# Altium integrated library Linear Technology Power Management Switching Regulator LTC1174-LTC3901.IntLib: 2647 symbols (part 252 of 364)
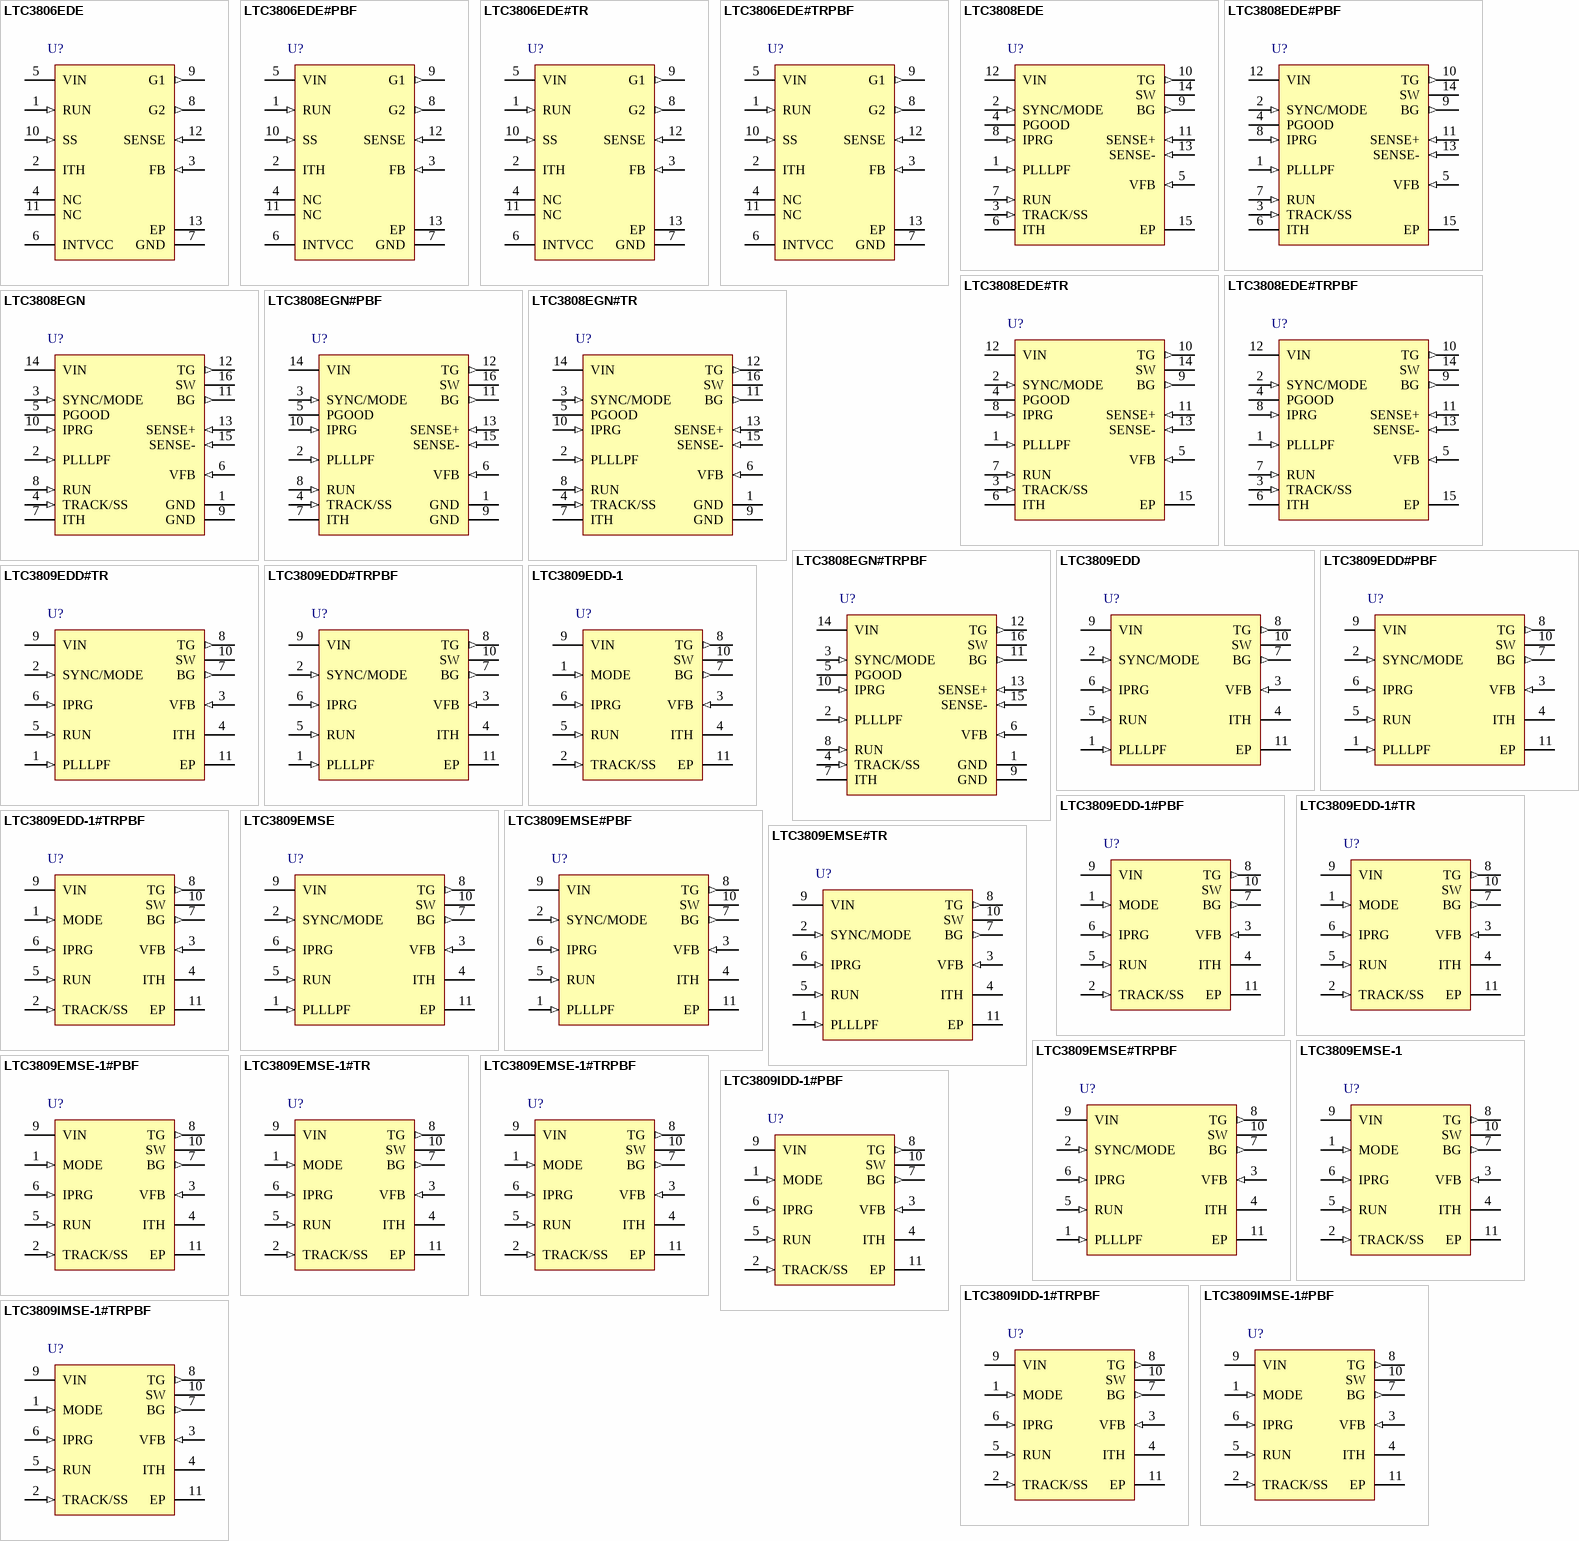
[diagram p245: symbols LTC3806EDE to LTC3809IMSE-1#TRPBF]

## LTC3809EMSE-1
designator U?
No Rsense, Low Input Voltage, Synchronous DC/DC Controller with Output Tracking, 10-pin SOP (MSE-10-EDP), -40 to 85 degC; Manufacturer: Linear Technology; PartNumber: LTC3809EMSE-1; Number of Outputs: 1; DatasheetVersion: Rev. C; PackageVersion: Rev. C, 08/2009; PackageReference: MSE-10; PackageDescription: 10-Pin Plastic MSOP, Exposed Die Pad, Body 3 x 3 mm, Pitch 0.5 mm; Supplier 1: Digi-Key; Supplier Part Number 1: LTC3809EMSE-1-ND; RoHS: FALSE; Mounting Technology: Surface Mount; ComponentLink1Description: Manufacturer URL; ComponentLink1URL: http://www.linear.com/; ComponentLink2Description: Datasheet; ComponentLink2URL: http://cds.linear.com/docs/en/datasheet/38091fc.pdf; ComponentLink3Description: Package Specification; ComponentLink3URL: http://cds.linear.com/docs/en/datasheet/3481fc.pdf
footprint LT-MSE-10-EDP-2060x1830TP_N (SOP, 10-Leads, Body 3.1x3.1mm, Pitch 0.5mm, Thermal Pad 2.17x1.94mm, IPC Medium Density)
footprint LT-MSE-10-EDP-2060x1830TP_L (SOP, 10-Leads, Body 3.1x3.1mm, Pitch 0.5mm, Thermal Pad 2.17x1.94mm, IPC High Density)
footprint LT-MSE-10-EDP-2060x1830TP_M (SOP, 10-Leads, Body 3.1x3.1mm, Pitch 0.5mm, Thermal Pad 2.17x1.94mm, IPC Low Density)
pins: 1 MODE (in) "This pin performs two functions: 1) auxiliary winding feedback input, and 2) Burst Mode operation, pulse skipping or forced continuous mode select. To select Burst Mode operation at light loads, tie this pin to VIN. (See Datasheet)", 2 TRACK/SS (in) "Tracking Input for the Controller or Optional External Soft-Start Input. This pin allows the start-up of VOUT to “track” the external voltage at this pin using an external resistor divider. Tying this pin to VIN all(See Datasheet)", 3 VFB (in) "Feedback Pin. This pin receives the remotely sensed feedback voltage for the controller from an external resistor divider across the output.", 4 ITH "Current Threshold and Error Amplifier Compensation Point. Nominal operating range on this pin is from 0.7V to 2V. The voltage on this pin determines the threshold of the main current comparator.", 5 RUN (in) "Run Control Input. Forcing this pin below 1.1V shuts down the chip. Driving this pin to VIN or releasing this pin enables the chip to start-up with the internal soft-start.", 6 IPRG (in) "Three-State Pin to Select Maximum Peak Sense Voltage Threshold. This pin selects the maximum allowed voltage drop between the VIN and SW pins (i.e., the maximum allowed drop across the external P-channel MOSFET). Tie to VIN, (See Datasheet)", 7 BG (out) "Bottom (NMOS) Gate Drive Output. This pin drives the gate of the external N-channel MOSFET. This pin has an output swing from PGND to VIN.", 8 TG (out) "Top (PMOS) Gate Drive Output. This pin drives the gate of the external P-channel MOSFET. This pin has an output swing from PGND to VIN.", 9 VIN (power) "Chip Signal Power Supply. This pin powers the entire chip, the gate drivers and serves as the positive input to the differential current comparator.", 10 SW "Switch Node Connection to Inductor. This pin is also the negative input to the differential current comparator and an input to the reverse current comparator. Normally this pin is connected to the drain of the external (See Datasheet)", 11 EP (power) "Ground connection for internal circuits, the gate drivers and the negative input to the reverse current comparator. The Exposed Pad must be soldered to the PCB ground."

## LTC3809EMSE-1#PBF
designator U?
No Rsense, Low Input Voltage, Synchronous DC/DC Controller with Output Tracking, 10-pin SOP (MSE-10-EDP), -40 to 85 degC, Pb-Free; Manufacturer: Linear Technology; PartNumber: LTC3809EMSE-1#PBF; Number of Outputs: 1; DatasheetVersion: Rev. C; PackageVersion: Rev. C, 08/2009; PackageReference: MSE-10; PackageDescription: 10-Pin Plastic MSOP, Exposed Die Pad, Body 3 x 3 mm, Pitch 0.5 mm; Supplier 1: Digi-Key; Supplier Part Number 1: LTC3809EMSE-1#PBF-ND; Supplier 2: Farnell; Supplier Part Number 2: 1663724; RoHS: TRUE; Mounting Technology: Surface Mount; ComponentLink1Description: Manufacturer URL; ComponentLink1URL: http://www.linear.com/; ComponentLink2Description: Datasheet; ComponentLink2URL: http://cds.linear.com/docs/en/datasheet/38091fc.pdf; ComponentLink3Description: Package Specification; ComponentLink3URL: http://cds.linear.com/docs/en/datasheet/3481fc.pdf
footprint LT-MSE-10-EDP-2060x1830TP_N (SOP, 10-Leads, Body 3.1x3.1mm, Pitch 0.5mm, Thermal Pad 2.17x1.94mm, IPC Medium Density)
footprint LT-MSE-10-EDP-2060x1830TP_L (SOP, 10-Leads, Body 3.1x3.1mm, Pitch 0.5mm, Thermal Pad 2.17x1.94mm, IPC High Density)
footprint LT-MSE-10-EDP-2060x1830TP_M (SOP, 10-Leads, Body 3.1x3.1mm, Pitch 0.5mm, Thermal Pad 2.17x1.94mm, IPC Low Density)
pins: 1 MODE (in) "This pin performs two functions: 1) auxiliary winding feedback input, and 2) Burst Mode operation, pulse skipping or forced continuous mode select. To select Burst Mode operation at light loads, tie this pin to VIN. (See Datasheet)", 2 TRACK/SS (in) "Tracking Input for the Controller or Optional External Soft-Start Input. This pin allows the start-up of VOUT to “track” the external voltage at this pin using an external resistor divider. Tying this pin to VIN all(See Datasheet)", 3 VFB (in) "Feedback Pin. This pin receives the remotely sensed feedback voltage for the controller from an external resistor divider across the output.", 4 ITH "Current Threshold and Error Amplifier Compensation Point. Nominal operating range on this pin is from 0.7V to 2V. The voltage on this pin determines the threshold of the main current comparator.", 5 RUN (in) "Run Control Input. Forcing this pin below 1.1V shuts down the chip. Driving this pin to VIN or releasing this pin enables the chip to start-up with the internal soft-start.", 6 IPRG (in) "Three-State Pin to Select Maximum Peak Sense Voltage Threshold. This pin selects the maximum allowed voltage drop between the VIN and SW pins (i.e., the maximum allowed drop across the external P-channel MOSFET). Tie to VIN, (See Datasheet)", 7 BG (out) "Bottom (NMOS) Gate Drive Output. This pin drives the gate of the external N-channel MOSFET. This pin has an output swing from PGND to VIN.", 8 TG (out) "Top (PMOS) Gate Drive Output. This pin drives the gate of the external P-channel MOSFET. This pin has an output swing from PGND to VIN.", 9 VIN (power) "Chip Signal Power Supply. This pin powers the entire chip, the gate drivers and serves as the positive input to the differential current comparator.", 10 SW "Switch Node Connection to Inductor. This pin is also the negative input to the differential current comparator and an input to the reverse current comparator. Normally this pin is connected to the drain of the external (See Datasheet)", 11 EP (power) "Ground connection for internal circuits, the gate drivers and the negative input to the reverse current comparator. The Exposed Pad must be soldered to the PCB ground."

## LTC3809EMSE-1#TR
designator U?
No Rsense, Low Input Voltage, Synchronous DC/DC Controller with Output Tracking, 10-pin SOP (MSE-10-EDP), -40 to 85 degC, Tape and Reel; Manufacturer: Linear Technology; PartNumber: LTC3809EMSE-1#TR; Number of Outputs: 1; DatasheetVersion: Rev. C; PackageVersion: Rev. C, 08/2009; PackageReference: MSE-10; PackageDescription: 10-Pin Plastic MSOP, Exposed Die Pad, Body 3 x 3 mm, Pitch 0.5 mm; Supplier 1: Digi-Key; Supplier Part Number 1: LTC3809EMSE-1#TR-ND; Packing: Tape and Reel; RoHS: FALSE; Mounting Technology: Surface Mount; ComponentLink1Description: Manufacturer URL; ComponentLink1URL: http://www.linear.com/; ComponentLink2Description: Datasheet; ComponentLink2URL: http://cds.linear.com/docs/en/datasheet/38091fc.pdf; ComponentLink3Description: Package Specification; ComponentLink3URL: http://cds.linear.com/docs/en/datasheet/3481fc.pdf
footprint LT-MSE-10-EDP-2060x1830TP_N (SOP, 10-Leads, Body 3.1x3.1mm, Pitch 0.5mm, Thermal Pad 2.17x1.94mm, IPC Medium Density)
footprint LT-MSE-10-EDP-2060x1830TP_L (SOP, 10-Leads, Body 3.1x3.1mm, Pitch 0.5mm, Thermal Pad 2.17x1.94mm, IPC High Density)
footprint LT-MSE-10-EDP-2060x1830TP_M (SOP, 10-Leads, Body 3.1x3.1mm, Pitch 0.5mm, Thermal Pad 2.17x1.94mm, IPC Low Density)
pins: 1 MODE (in) "This pin performs two functions: 1) auxiliary winding feedback input, and 2) Burst Mode operation, pulse skipping or forced continuous mode select. To select Burst Mode operation at light loads, tie this pin to VIN. (See Datasheet)", 2 TRACK/SS (in) "Tracking Input for the Controller or Optional External Soft-Start Input. This pin allows the start-up of VOUT to “track” the external voltage at this pin using an external resistor divider. Tying this pin to VIN all(See Datasheet)", 3 VFB (in) "Feedback Pin. This pin receives the remotely sensed feedback voltage for the controller from an external resistor divider across the output.", 4 ITH "Current Threshold and Error Amplifier Compensation Point. Nominal operating range on this pin is from 0.7V to 2V. The voltage on this pin determines the threshold of the main current comparator.", 5 RUN (in) "Run Control Input. Forcing this pin below 1.1V shuts down the chip. Driving this pin to VIN or releasing this pin enables the chip to start-up with the internal soft-start.", 6 IPRG (in) "Three-State Pin to Select Maximum Peak Sense Voltage Threshold. This pin selects the maximum allowed voltage drop between the VIN and SW pins (i.e., the maximum allowed drop across the external P-channel MOSFET). Tie to VIN, (See Datasheet)", 7 BG (out) "Bottom (NMOS) Gate Drive Output. This pin drives the gate of the external N-channel MOSFET. This pin has an output swing from PGND to VIN.", 8 TG (out) "Top (PMOS) Gate Drive Output. This pin drives the gate of the external P-channel MOSFET. This pin has an output swing from PGND to VIN.", 9 VIN (power) "Chip Signal Power Supply. This pin powers the entire chip, the gate drivers and serves as the positive input to the differential current comparator.", 10 SW "Switch Node Connection to Inductor. This pin is also the negative input to the differential current comparator and an input to the reverse current comparator. Normally this pin is connected to the drain of the external (See Datasheet)", 11 EP (power) "Ground connection for internal circuits, the gate drivers and the negative input to the reverse current comparator. The Exposed Pad must be soldered to the PCB ground."

## LTC3809EMSE-1#TRPBF
designator U?
No Rsense, Low Input Voltage, Synchronous DC/DC Controller with Output Tracking, 10-pin SOP (MSE-10-EDP), -40 to 85 degC, Pb-Free, Tape and Reel; Manufacturer: Linear Technology; PartNumber: LTC3809EMSE-1#TRPBF; Number of Outputs: 1; DatasheetVersion: Rev. C; PackageVersion: Rev. C, 08/2009; PackageReference: MSE-10; PackageDescription: 10-Pin Plastic MSOP, Exposed Die Pad, Body 3 x 3 mm, Pitch 0.5 mm; Supplier 1: Digi-Key; Supplier Part Number 1: LTC3809EMSE-1#TRPBF-ND; Packing: Tape and Reel; RoHS: TRUE; Mounting Technology: Surface Mount; ComponentLink1Description: Manufacturer URL; ComponentLink1URL: http://www.linear.com/; ComponentLink2Description: Datasheet; ComponentLink2URL: http://cds.linear.com/docs/en/datasheet/38091fc.pdf; ComponentLink3Description: Package Specification; ComponentLink3URL: http://cds.linear.com/docs/en/datasheet/3481fc.pdf
footprint LT-MSE-10-EDP-2060x1830TP_N (SOP, 10-Leads, Body 3.1x3.1mm, Pitch 0.5mm, Thermal Pad 2.17x1.94mm, IPC Medium Density)
footprint LT-MSE-10-EDP-2060x1830TP_L (SOP, 10-Leads, Body 3.1x3.1mm, Pitch 0.5mm, Thermal Pad 2.17x1.94mm, IPC High Density)
footprint LT-MSE-10-EDP-2060x1830TP_M (SOP, 10-Leads, Body 3.1x3.1mm, Pitch 0.5mm, Thermal Pad 2.17x1.94mm, IPC Low Density)
pins: 1 MODE (in) "This pin performs two functions: 1) auxiliary winding feedback input, and 2) Burst Mode operation, pulse skipping or forced continuous mode select. To select Burst Mode operation at light loads, tie this pin to VIN. (See Datasheet)", 2 TRACK/SS (in) "Tracking Input for the Controller or Optional External Soft-Start Input. This pin allows the start-up of VOUT to “track” the external voltage at this pin using an external resistor divider. Tying this pin to VIN all(See Datasheet)", 3 VFB (in) "Feedback Pin. This pin receives the remotely sensed feedback voltage for the controller from an external resistor divider across the output.", 4 ITH "Current Threshold and Error Amplifier Compensation Point. Nominal operating range on this pin is from 0.7V to 2V. The voltage on this pin determines the threshold of the main current comparator.", 5 RUN (in) "Run Control Input. Forcing this pin below 1.1V shuts down the chip. Driving this pin to VIN or releasing this pin enables the chip to start-up with the internal soft-start.", 6 IPRG (in) "Three-State Pin to Select Maximum Peak Sense Voltage Threshold. This pin selects the maximum allowed voltage drop between the VIN and SW pins (i.e., the maximum allowed drop across the external P-channel MOSFET). Tie to VIN, (See Datasheet)", 7 BG (out) "Bottom (NMOS) Gate Drive Output. This pin drives the gate of the external N-channel MOSFET. This pin has an output swing from PGND to VIN.", 8 TG (out) "Top (PMOS) Gate Drive Output. This pin drives the gate of the external P-channel MOSFET. This pin has an output swing from PGND to VIN.", 9 VIN (power) "Chip Signal Power Supply. This pin powers the entire chip, the gate drivers and serves as the positive input to the differential current comparator.", 10 SW "Switch Node Connection to Inductor. This pin is also the negative input to the differential current comparator and an input to the reverse current comparator. Normally this pin is connected to the drain of the external (See Datasheet)", 11 EP (power) "Ground connection for internal circuits, the gate drivers and the negative input to the reverse current comparator. The Exposed Pad must be soldered to the PCB ground."

## LTC3809IDD-1#PBF
designator U?
No Rsense, Low Input Voltage, Synchronous DC/DC Controller with Output Tracking, 10-pin SON (DD-10), -40 to 85 degC, Pb-Free; Manufacturer: Linear Technology; PartNumber: LTC3809IDD-1#PBF; Number of Outputs: 1; DatasheetVersion: Rev. C; PackageVersion: Rev. C, 06/2010; PackageReference: DD-10; PackageDescription: 10-Pin Plastic DFN, Body 3 x 3 mm, Pitch 0.5 mm; Supplier 1: Digi-Key; Supplier Part Number 1: LTC3809IDD-1#PBF-ND; RoHS: TRUE; Mounting Technology: Surface Mount; Code_JEDEC: MO-229; ComponentLink1Description: Manufacturer URL; ComponentLink1URL: http://www.linear.com/; ComponentLink2Description: Datasheet; ComponentLink2URL: http://cds.linear.com/docs/en/datasheet/38091fc.pdf; ComponentLink3Description: Package Specification; ComponentLink3URL: http://cds.linear.com/docs/en/packaging/DFN_10_05-08-1699.pdf
footprint LT-DD-10_V (SON, 10-Leads, Body 3x3mm, Pitch 0.5mm, Thermal Pad 2.38x1.65mm)
pins: 1 MODE (in) "This pin performs two functions: 1) auxiliary winding feedback input, and 2) Burst Mode operation, pulse skipping or forced continuous mode select. To select Burst Mode operation at light loads, tie this pin to VIN. (See Datasheet)", 2 TRACK/SS (in) "Tracking Input for the Controller or Optional External Soft-Start Input. This pin allows the start-up of VOUT to “track” the external voltage at this pin using an external resistor divider. Tying this pin to VIN all(See Datasheet)", 3 VFB (in) "Feedback Pin. This pin receives the remotely sensed feedback voltage for the controller from an external resistor divider across the output.", 4 ITH "Current Threshold and Error Amplifier Compensation Point. Nominal operating range on this pin is from 0.7V to 2V. The voltage on this pin determines the threshold of the main current comparator.", 5 RUN (in) "Run Control Input. Forcing this pin below 1.1V shuts down the chip. Driving this pin to VIN or releasing this pin enables the chip to start-up with the internal soft-start.", 6 IPRG (in) "Three-State Pin to Select Maximum Peak Sense Voltage Threshold. This pin selects the maximum allowed voltage drop between the VIN and SW pins (i.e., the maximum allowed drop across the external P-channel MOSFET). Tie to VIN, (See Datasheet)", 7 BG (out) "Bottom (NMOS) Gate Drive Output. This pin drives the gate of the external N-channel MOSFET. This pin has an output swing from PGND to VIN.", 8 TG (out) "Top (PMOS) Gate Drive Output. This pin drives the gate of the external P-channel MOSFET. This pin has an output swing from PGND to VIN.", 9 VIN (power) "Chip Signal Power Supply. This pin powers the entire chip, the gate drivers and serves as the positive input to the differential current comparator.", 10 SW "Switch Node Connection to Inductor. This pin is also the negative input to the differential current comparator and an input to the reverse current comparator. Normally this pin is connected to the drain of the external (See Datasheet)", 11 EP (power) "Ground connection for internal circuits, the gate drivers and the negative input to the reverse current comparator. The Exposed Pad must be soldered to the PCB ground."

## LTC3809IDD-1#TRPBF
designator U?
No Rsense, Low Input Voltage, Synchronous DC/DC Controller with Output Tracking, 10-pin SON (DD-10), -40 to 85 degC, Pb-Free, Tape and Reel; Manufacturer: Linear Technology; PartNumber: LTC3809IDD-1#TRPBF; Number of Outputs: 1; DatasheetVersion: Rev. C; PackageVersion: Rev. C, 06/2010; PackageReference: DD-10; PackageDescription: 10-Pin Plastic DFN, Body 3 x 3 mm, Pitch 0.5 mm; Supplier 1: Digi-Key; Supplier Part Number 1: LTC3809IDD-1#TRPBF-ND; Packing: Tape and Reel; RoHS: TRUE; Mounting Technology: Surface Mount; Code_JEDEC: MO-229; ComponentLink1Description: Manufacturer URL; ComponentLink1URL: http://www.linear.com/; ComponentLink2Description: Datasheet; ComponentLink2URL: http://cds.linear.com/docs/en/datasheet/38091fc.pdf; ComponentLink3Description: Package Specification; ComponentLink3URL: http://cds.linear.com/docs/en/packaging/DFN_10_05-08-1699.pdf
footprint LT-DD-10_V (SON, 10-Leads, Body 3x3mm, Pitch 0.5mm, Thermal Pad 2.38x1.65mm)
pins: 1 MODE (in) "This pin performs two functions: 1) auxiliary winding feedback input, and 2) Burst Mode operation, pulse skipping or forced continuous mode select. To select Burst Mode operation at light loads, tie this pin to VIN. (See Datasheet)", 2 TRACK/SS (in) "Tracking Input for the Controller or Optional External Soft-Start Input. This pin allows the start-up of VOUT to “track” the external voltage at this pin using an external resistor divider. Tying this pin to VIN all(See Datasheet)", 3 VFB (in) "Feedback Pin. This pin receives the remotely sensed feedback voltage for the controller from an external resistor divider across the output.", 4 ITH "Current Threshold and Error Amplifier Compensation Point. Nominal operating range on this pin is from 0.7V to 2V. The voltage on this pin determines the threshold of the main current comparator.", 5 RUN (in) "Run Control Input. Forcing this pin below 1.1V shuts down the chip. Driving this pin to VIN or releasing this pin enables the chip to start-up with the internal soft-start.", 6 IPRG (in) "Three-State Pin to Select Maximum Peak Sense Voltage Threshold. This pin selects the maximum allowed voltage drop between the VIN and SW pins (i.e., the maximum allowed drop across the external P-channel MOSFET). Tie to VIN, (See Datasheet)", 7 BG (out) "Bottom (NMOS) Gate Drive Output. This pin drives the gate of the external N-channel MOSFET. This pin has an output swing from PGND to VIN.", 8 TG (out) "Top (PMOS) Gate Drive Output. This pin drives the gate of the external P-channel MOSFET. This pin has an output swing from PGND to VIN.", 9 VIN (power) "Chip Signal Power Supply. This pin powers the entire chip, the gate drivers and serves as the positive input to the differential current comparator.", 10 SW "Switch Node Connection to Inductor. This pin is also the negative input to the differential current comparator and an input to the reverse current comparator. Normally this pin is connected to the drain of the external (See Datasheet)", 11 EP (power) "Ground connection for internal circuits, the gate drivers and the negative input to the reverse current comparator. The Exposed Pad must be soldered to the PCB ground."

## LTC3809IMSE-1#PBF
designator U?
No Rsense, Low Input Voltage, Synchronous DC/DC Controller with Output Tracking, 10-pin SOP (MSE-10-EDP), -40 to 85 degC, Pb-Free; Manufacturer: Linear Technology; PartNumber: LTC3809IMSE-1#PBF; Number of Outputs: 1; DatasheetVersion: Rev. C; PackageVersion: Rev. C, 08/2009; PackageReference: MSE-10; PackageDescription: 10-Pin Plastic MSOP, Exposed Die Pad, Body 3 x 3 mm, Pitch 0.5 mm; Supplier 1: Digi-Key; Supplier Part Number 1: LTC3809IMSE-1#PBF-ND; RoHS: TRUE; Mounting Technology: Surface Mount; ComponentLink1Description: Manufacturer URL; ComponentLink1URL: http://www.linear.com/; ComponentLink2Description: Datasheet; ComponentLink2URL: http://cds.linear.com/docs/en/datasheet/38091fc.pdf; ComponentLink3Description: Package Specification; ComponentLink3URL: http://cds.linear.com/docs/en/datasheet/3481fc.pdf
footprint LT-MSE-10-EDP-2060x1830TP_N (SOP, 10-Leads, Body 3.1x3.1mm, Pitch 0.5mm, Thermal Pad 2.17x1.94mm, IPC Medium Density)
footprint LT-MSE-10-EDP-2060x1830TP_L (SOP, 10-Leads, Body 3.1x3.1mm, Pitch 0.5mm, Thermal Pad 2.17x1.94mm, IPC High Density)
footprint LT-MSE-10-EDP-2060x1830TP_M (SOP, 10-Leads, Body 3.1x3.1mm, Pitch 0.5mm, Thermal Pad 2.17x1.94mm, IPC Low Density)
pins: 1 MODE (in) "This pin performs two functions: 1) auxiliary winding feedback input, and 2) Burst Mode operation, pulse skipping or forced continuous mode select. To select Burst Mode operation at light loads, tie this pin to VIN. (See Datasheet)", 2 TRACK/SS (in) "Tracking Input for the Controller or Optional External Soft-Start Input. This pin allows the start-up of VOUT to “track” the external voltage at this pin using an external resistor divider. Tying this pin to VIN all(See Datasheet)", 3 VFB (in) "Feedback Pin. This pin receives the remotely sensed feedback voltage for the controller from an external resistor divider across the output.", 4 ITH "Current Threshold and Error Amplifier Compensation Point. Nominal operating range on this pin is from 0.7V to 2V. The voltage on this pin determines the threshold of the main current comparator.", 5 RUN (in) "Run Control Input. Forcing this pin below 1.1V shuts down the chip. Driving this pin to VIN or releasing this pin enables the chip to start-up with the internal soft-start.", 6 IPRG (in) "Three-State Pin to Select Maximum Peak Sense Voltage Threshold. This pin selects the maximum allowed voltage drop between the VIN and SW pins (i.e., the maximum allowed drop across the external P-channel MOSFET). Tie to VIN, (See Datasheet)", 7 BG (out) "Bottom (NMOS) Gate Drive Output. This pin drives the gate of the external N-channel MOSFET. This pin has an output swing from PGND to VIN.", 8 TG (out) "Top (PMOS) Gate Drive Output. This pin drives the gate of the external P-channel MOSFET. This pin has an output swing from PGND to VIN.", 9 VIN (power) "Chip Signal Power Supply. This pin powers the entire chip, the gate drivers and serves as the positive input to the differential current comparator.", 10 SW "Switch Node Connection to Inductor. This pin is also the negative input to the differential current comparator and an input to the reverse current comparator. Normally this pin is connected to the drain of the external (See Datasheet)", 11 EP (power) "Ground connection for internal circuits, the gate drivers and the negative input to the reverse current comparator. The Exposed Pad must be soldered to the PCB ground."

## LTC3809IMSE-1#TRPBF
designator U?
No Rsense, Low Input Voltage, Synchronous DC/DC Controller with Output Tracking, 10-pin SOP (MSE-10-EDP), -40 to 85 degC, Pb-Free, Tape and Reel; Manufacturer: Linear Technology; PartNumber: LTC3809IMSE-1#TRPBF; Number of Outputs: 1; DatasheetVersion: Rev. C; PackageVersion: Rev. C, 08/2009; PackageReference: MSE-10; PackageDescription: 10-Pin Plastic MSOP, Exposed Die Pad, Body 3 x 3 mm, Pitch 0.5 mm; Supplier 1: Digi-Key; Supplier Part Number 1: LTC3809IMSE-1#TRPBF-ND; Packing: Tape and Reel; RoHS: TRUE; Mounting Technology: Surface Mount; ComponentLink1Description: Manufacturer URL; ComponentLink1URL: http://www.linear.com/; ComponentLink2Description: Datasheet; ComponentLink2URL: http://cds.linear.com/docs/en/datasheet/38091fc.pdf; ComponentLink3Description: Package Specification; ComponentLink3URL: http://cds.linear.com/docs/en/datasheet/3481fc.pdf
footprint LT-MSE-10-EDP-2060x1830TP_N (SOP, 10-Leads, Body 3.1x3.1mm, Pitch 0.5mm, Thermal Pad 2.17x1.94mm, IPC Medium Density)
footprint LT-MSE-10-EDP-2060x1830TP_L (SOP, 10-Leads, Body 3.1x3.1mm, Pitch 0.5mm, Thermal Pad 2.17x1.94mm, IPC High Density)
footprint LT-MSE-10-EDP-2060x1830TP_M (SOP, 10-Leads, Body 3.1x3.1mm, Pitch 0.5mm, Thermal Pad 2.17x1.94mm, IPC Low Density)
pins: 1 MODE (in) "This pin performs two functions: 1) auxiliary winding feedback input, and 2) Burst Mode operation, pulse skipping or forced continuous mode select. To select Burst Mode operation at light loads, tie this pin to VIN. (See Datasheet)", 2 TRACK/SS (in) "Tracking Input for the Controller or Optional External Soft-Start Input. This pin allows the start-up of VOUT to “track” the external voltage at this pin using an external resistor divider. Tying this pin to VIN all(See Datasheet)", 3 VFB (in) "Feedback Pin. This pin receives the remotely sensed feedback voltage for the controller from an external resistor divider across the output.", 4 ITH "Current Threshold and Error Amplifier Compensation Point. Nominal operating range on this pin is from 0.7V to 2V. The voltage on this pin determines the threshold of the main current comparator.", 5 RUN (in) "Run Control Input. Forcing this pin below 1.1V shuts down the chip. Driving this pin to VIN or releasing this pin enables the chip to start-up with the internal soft-start.", 6 IPRG (in) "Three-State Pin to Select Maximum Peak Sense Voltage Threshold. This pin selects the maximum allowed voltage drop between the VIN and SW pins (i.e., the maximum allowed drop across the external P-channel MOSFET). Tie to VIN, (See Datasheet)", 7 BG (out) "Bottom (NMOS) Gate Drive Output. This pin drives the gate of the external N-channel MOSFET. This pin has an output swing from PGND to VIN.", 8 TG (out) "Top (PMOS) Gate Drive Output. This pin drives the gate of the external P-channel MOSFET. This pin has an output swing from PGND to VIN.", 9 VIN (power) "Chip Signal Power Supply. This pin powers the entire chip, the gate drivers and serves as the positive input to the differential current comparator.", 10 SW "Switch Node Connection to Inductor. This pin is also the negative input to the differential current comparator and an input to the reverse current comparator. Normally this pin is connected to the drain of the external (See Datasheet)", 11 EP (power) "Ground connection for internal circuits, the gate drivers and the negative input to the reverse current comparator. The Exposed Pad must be soldered to the PCB ground."

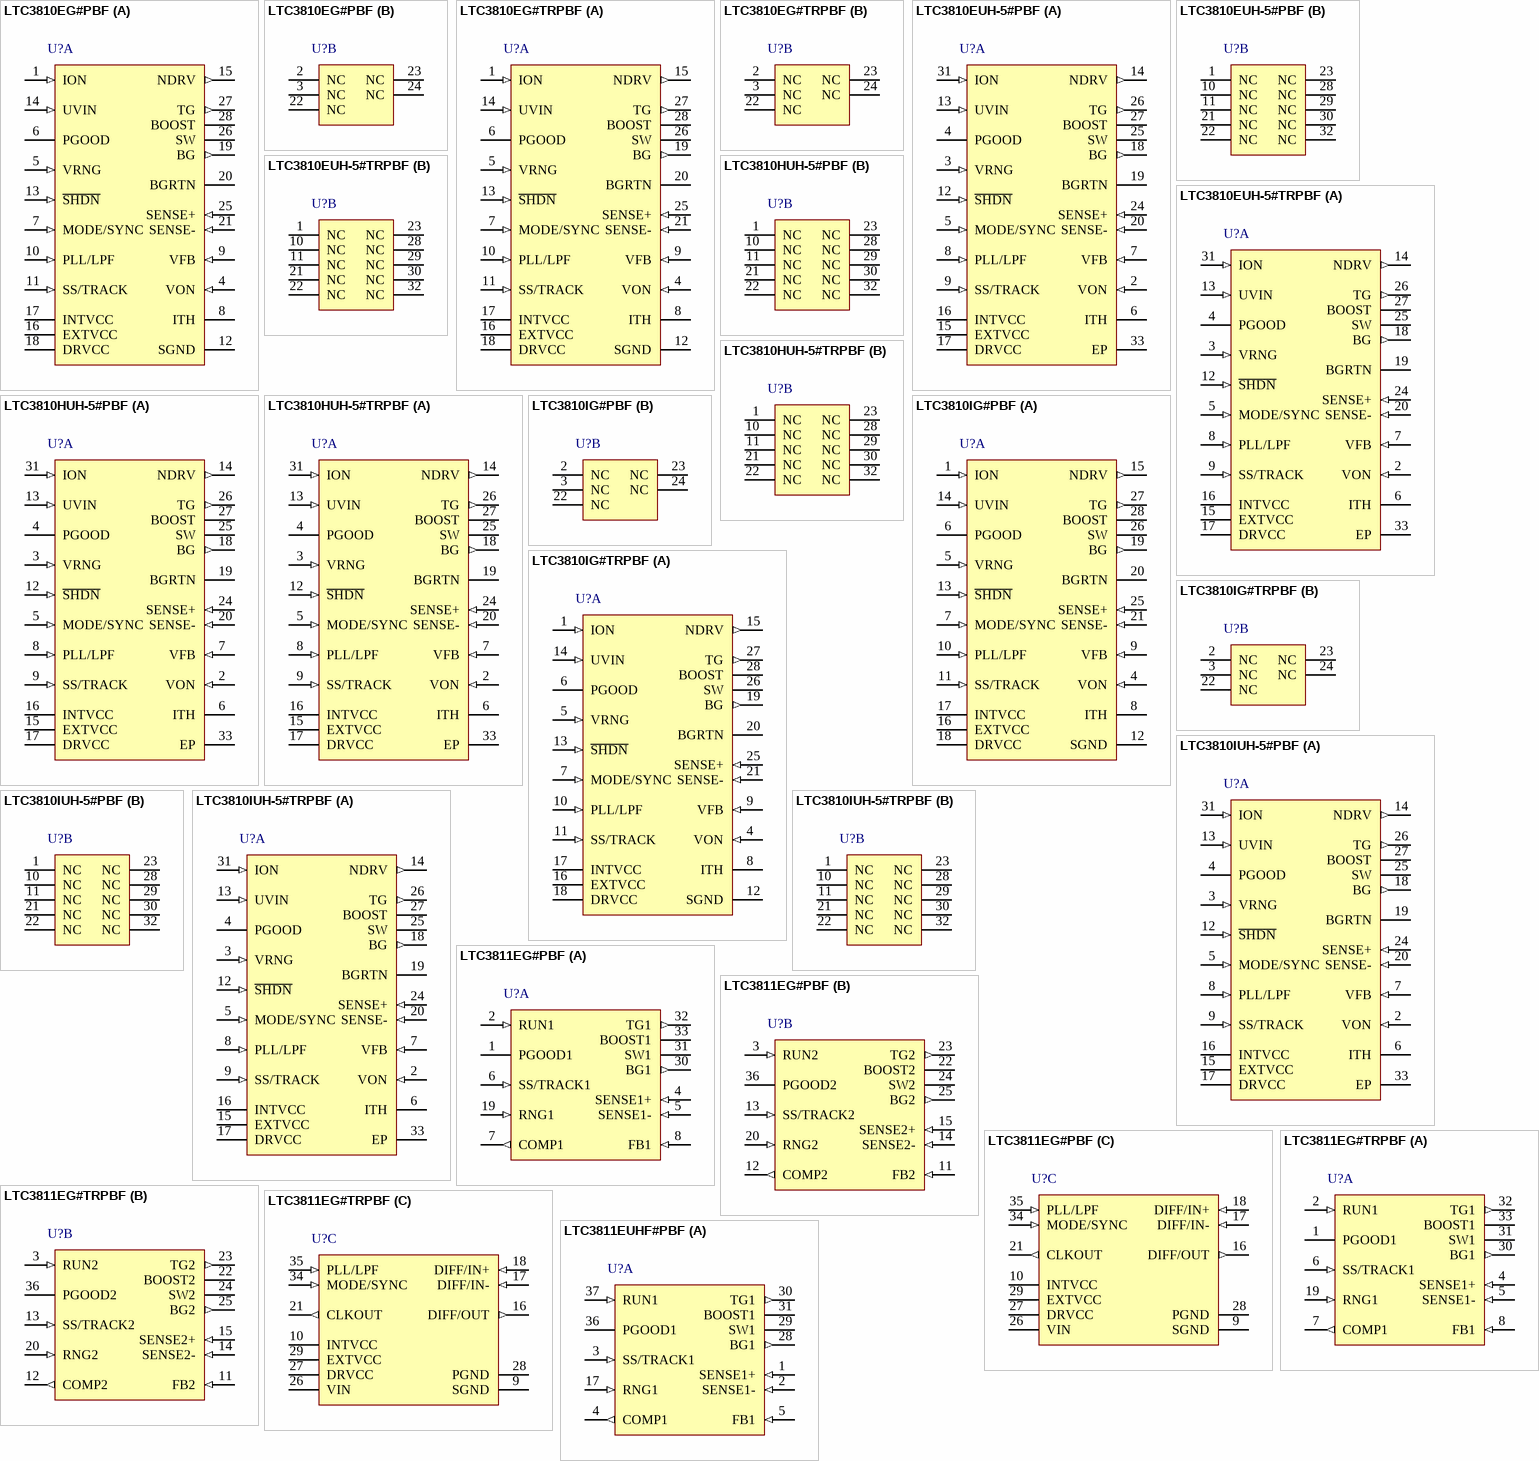
[diagram p78: symbols LTC3810EG#PBF to LTC3811EUHF#PBF]

## LTC3810EG#PBF
designator U?
Current Mode Synchronous Switching Regulator Controller, 28-pin SOP (G-28), -40 to 125 degC, Pb-Free; Manufacturer: Linear Technology; PartNumber: LTC3810EG#PBF; Frequency Sync Range: 100kHz - 1MHz; Number of Outputs: 1; DatasheetVersion: Rev. C; PackageVersion: Jun-10; PackageReference: G-28; PackageDescription: 28-Pin Plastic SSOP, Body 10.2 x 5.3 mm, Pitch 0.65 mm; Supplier 1: Digi-Key; Supplier Part Number 1: LTC3810EG#PBF-ND; Supplier 2: Farnell; Supplier Part Number 2: 2295153; Supplier 3: Newark; Supplier Part Number 3: 56M8492; RoHS: TRUE; Mounting Technology: Surface Mount; ComponentLink1Description: Manufacturer URL; ComponentLink1URL: http://www.linear.com/; ComponentLink2Description: Datasheet; ComponentLink2URL: http://cds.linear.com/docs/en/datasheet/3810fc.pdf; ComponentLink3Description: Package Specification; ComponentLink3URL: http://cds.linear.com/docs/en/packaging/SSOP_28_05-08-1640.pdf
footprint LT-G-28_N (SOP, 28-Leads, Body 10.2x5.3mm, Pitch 0.65mm, IPC Medium Density)
footprint LT-G-28_L (SOP, 28-Leads, Body 10.2x5.3mm, Pitch 0.65mm, IPC High Density)
footprint LT-G-28_M (SOP, 28-Leads, Body 10.2x5.3mm, Pitch 0.65mm, IPC Low Density)
part A pins: 1 ION (in) "On-Time Current Input. Tie a resistor from VIN to this pin to set the one-shot timer current and thereby set the switching frequency.", 4 VON (in) "On-Time Voltage Input. Voltage trip point for the on-time comparator. Tying this pin to the output voltage or an external resistive divider from the output makes the on-time proportional to VOUT. The comparator defaults to 0.(See Datasheet)", 5 VRNG (in) "Sense Voltage Limit Set. The voltage at this pin sets the nominal sense voltage at maximum output current and can be set from 0.5V to 2V by a resistive divider from INTVCC. The nominal sense voltage defaults to 95mV when (See Datasheet)", 6 PGOOD (oc) "Power Good Output. Open-drain logic output that is pulled to ground when the output voltage is not between +/-10% of the regulation point. The output voltage must be out of regulation for at least 120us before the power good (See Datasheet)", 7 MODE/SYNC (in) "Pulse Skip Mode Enable/Sync Pin. This multifunction pin provides pulse skip mode enable/ disable control and an external clock input to the phase detector. Pulling this pin below 0.8V or to an external logic-level (See Datasheet)", 8 ITH "Error Amplifier Compensation Point and Current Control Threshold. The current comparator threshold increases with control voltage. The voltage ranges from 0V to 2.6V with 1.2V corresponding to zero sense voltage (zero (See Datasheet)", 9 VFB (in) "Feedback Input. Connect VFB through a resistor divider network to VOUT to set the output voltage.", 10 PLL/LPF (in) "The phase-locked loop’s lowpass filter is tied to this pin. The voltage at this pin defaults to 1.2V when the IC is not synchronized with an external clock at the MODE/SYNC pin.", 11 SS/TRACK (in) "Soft-Start/Tracking Input. For softstart, a capacitor to ground at this pin sets the ramp rate of the output voltage (approximately 0.6s/uF). For coincident or ratiometric tracking, connect this pin to a resistive divider (See Datasheet)", 12 SGND (power) "Signal Ground. All small-signal components should connect to this ground and eventually connect to PGND at one point.", 13 ~{SHDN} (in) "Shutdown Pin. Pulling this pin below 1.5V will shut down the LTC3810, turn off both of the external MOSFET switches and reduce the quiescent supply current to 240uA.", 14 UVIN (in) "UVLO Input. This pin is input to the internal UVLO and is compared to an internal 0.8V reference. An external resistor divider is connected to this pin and the input supply to program the undervoltage lockout voltage. When (See Datasheet)", 15 NDRV (out) "Drive Output for External Pass Device of the Linear Regulator for INTVCC. Connect to the gate of an external NMOS pass device and a pull-up resistor to the input voltage VIN.", 16 EXTVCC (power) "External Driver Supply Voltage. When this voltage exceeds 6.7V, an internal switch connects this pin to INTVCC through an LDO and turns off the external MOSFET connected to NDRV, so that controller and gate drive are drawn (See Datasheet)", 17 INTVCC (power) "Main Supply Pin. All internal circuits except the output drivers are powered from this pin. INTVCC should be bypassed to ground (Pin 10) with at least a 0.1uF capacitor in close proximity to the LTC3810.", 18 DRVCC (power) "Driver Supply Pin. DRVCC supplies power to the BG output driver. This pin is normally connected to INTVCC. DRVCC should be bypassed to BGRTN (Pin 20) with a low ESR (X5R or better) 1uF capacitor in close proximity to the (See Datasheet)", 19 BG (out) "Bottom Gate Drive. The BG pin drives the gate of the bottom N-channel synchronous switch MOSFET. This pin swings from BGRTN to DRVCC.", 20 BGRTN "Bottom Gate Return. This pin connects to the source of the pull-down MOSFET in the BG driver and is normally connected to ground. Connecting a negative supply to this pin allows the synchronous MOSFET ’s gate to be pulle(See Datasheet)", 21 SENSE- (in) "Current Sense Comparator Input. The (+) input to the current comparator is normally connected to SW unless using a sense resistor. The (-) input is used to accurately kelvin sense the bottom side of the sense resistor or (See Datasheet)", 25 SENSE+ (in) "Current Sense Comparator Input. The (+) input to the current comparator is normally connected to SW unless using a sense resistor. The (-) input is used to accurately kelvin sense the bottom side of the sense resistor or (See Datasheet)", 26 SW "Switch Node Connection to Inductor and Bootstrap Capacitor. Voltage swing at this pin is from a Schottky diode (external) voltage drop below ground to VIN.", 27 TG (out) "Top Gate Drive. The TG pin drives the gate of the top N-channel synchronous switch MOSFET. The TG driver draws power from the BOOST pin and returns to the SW pin, providing true floating drive to the top MOSFET.", 28 BOOST "Top Gate Driver Supply. The BOOST pin supplies power to the floating TG driver. BOOST should be bypassed to SW with a low ESR (X5R or better) 0.1uF capacitor. An additional fast recovery Schottky diode from DRVCC to the (See Datasheet)"
part B pins: 2 NC, 3 NC, 22 NC, 23 NC, 24 NC

## LTC3810EG#TRPBF
designator U?
Current Mode Synchronous Switching Regulator Controller, 28-pin SOP (G-28), -40 to 125 degC, Pb-Free, Tape and Reel; Manufacturer: Linear Technology; PartNumber: LTC3810EG#TRPBF; Frequency Sync Range: 100kHz - 1MHz; Number of Outputs: 1; DatasheetVersion: Rev. C; PackageVersion: Jun-10; PackageReference: G-28; PackageDescription: 28-Pin Plastic SSOP, Body 10.2 x 5.3 mm, Pitch 0.65 mm; Supplier 1: Digi-Key; Supplier Part Number 1: LTC3810EG#TRPBF-ND; Supplier 2: Newark; Supplier Part Number 2: 56M8493; Packing: Tape and Reel; RoHS: TRUE; Mounting Technology: Surface Mount; ComponentLink1Description: Manufacturer URL; ComponentLink1URL: http://www.linear.com/; ComponentLink2Description: Datasheet; ComponentLink2URL: http://cds.linear.com/docs/en/datasheet/3810fc.pdf; ComponentLink3Description: Package Specification; ComponentLink3URL: http://cds.linear.com/docs/en/packaging/SSOP_28_05-08-1640.pdf
footprint LT-G-28_N (SOP, 28-Leads, Body 10.2x5.3mm, Pitch 0.65mm, IPC Medium Density)
footprint LT-G-28_L (SOP, 28-Leads, Body 10.2x5.3mm, Pitch 0.65mm, IPC High Density)
footprint LT-G-28_M (SOP, 28-Leads, Body 10.2x5.3mm, Pitch 0.65mm, IPC Low Density)
part A pins: 1 ION (in) "On-Time Current Input. Tie a resistor from VIN to this pin to set the one-shot timer current and thereby set the switching frequency.", 4 VON (in) "On-Time Voltage Input. Voltage trip point for the on-time comparator. Tying this pin to the output voltage or an external resistive divider from the output makes the on-time proportional to VOUT. The comparator defaults to 0.(See Datasheet)", 5 VRNG (in) "Sense Voltage Limit Set. The voltage at this pin sets the nominal sense voltage at maximum output current and can be set from 0.5V to 2V by a resistive divider from INTVCC. The nominal sense voltage defaults to 95mV when (See Datasheet)", 6 PGOOD (oc) "Power Good Output. Open-drain logic output that is pulled to ground when the output voltage is not between +/-10% of the regulation point. The output voltage must be out of regulation for at least 120us before the power good (See Datasheet)", 7 MODE/SYNC (in) "Pulse Skip Mode Enable/Sync Pin. This multifunction pin provides pulse skip mode enable/ disable control and an external clock input to the phase detector. Pulling this pin below 0.8V or to an external logic-level (See Datasheet)", 8 ITH "Error Amplifier Compensation Point and Current Control Threshold. The current comparator threshold increases with control voltage. The voltage ranges from 0V to 2.6V with 1.2V corresponding to zero sense voltage (zero (See Datasheet)", 9 VFB (in) "Feedback Input. Connect VFB through a resistor divider network to VOUT to set the output voltage.", 10 PLL/LPF (in) "The phase-locked loop’s lowpass filter is tied to this pin. The voltage at this pin defaults to 1.2V when the IC is not synchronized with an external clock at the MODE/SYNC pin.", 11 SS/TRACK (in) "Soft-Start/Tracking Input. For softstart, a capacitor to ground at this pin sets the ramp rate of the output voltage (approximately 0.6s/uF). For coincident or ratiometric tracking, connect this pin to a resistive divider (See Datasheet)", 12 SGND (power) "Signal Ground. All small-signal components should connect to this ground and eventually connect to PGND at one point.", 13 ~{SHDN} (in) "Shutdown Pin. Pulling this pin below 1.5V will shut down the LTC3810, turn off both of the external MOSFET switches and reduce the quiescent supply current to 240uA.", 14 UVIN (in) "UVLO Input. This pin is input to the internal UVLO and is compared to an internal 0.8V reference. An external resistor divider is connected to this pin and the input supply to program the undervoltage lockout voltage. When (See Datasheet)", 15 NDRV (out) "Drive Output for External Pass Device of the Linear Regulator for INTVCC. Connect to the gate of an external NMOS pass device and a pull-up resistor to the input voltage VIN.", 16 EXTVCC (power) "External Driver Supply Voltage. When this voltage exceeds 6.7V, an internal switch connects this pin to INTVCC through an LDO and turns off the external MOSFET connected to NDRV, so that controller and gate drive are drawn (See Datasheet)", 17 INTVCC (power) "Main Supply Pin. All internal circuits except the output drivers are powered from this pin. INTVCC should be bypassed to ground (Pin 10) with at least a 0.1uF capacitor in close proximity to the LTC3810.", 18 DRVCC (power) "Driver Supply Pin. DRVCC supplies power to the BG output driver. This pin is normally connected to INTVCC. DRVCC should be bypassed to BGRTN (Pin 20) with a low ESR (X5R or better) 1uF capacitor in close proximity to the (See Datasheet)", 19 BG (out) "Bottom Gate Drive. The BG pin drives the gate of the bottom N-channel synchronous switch MOSFET. This pin swings from BGRTN to DRVCC.", 20 BGRTN "Bottom Gate Return. This pin connects to the source of the pull-down MOSFET in the BG driver and is normally connected to ground. Connecting a negative supply to this pin allows the synchronous MOSFET ’s gate to be pulle(See Datasheet)", 21 SENSE- (in) "Current Sense Comparator Input. The (+) input to the current comparator is normally connected to SW unless using a sense resistor. The (-) input is used to accurately kelvin sense the bottom side of the sense resistor or (See Datasheet)", 25 SENSE+ (in) "Current Sense Comparator Input. The (+) input to the current comparator is normally connected to SW unless using a sense resistor. The (-) input is used to accurately kelvin sense the bottom side of the sense resistor or (See Datasheet)", 26 SW "Switch Node Connection to Inductor and Bootstrap Capacitor. Voltage swing at this pin is from a Schottky diode (external) voltage drop below ground to VIN.", 27 TG (out) "Top Gate Drive. The TG pin drives the gate of the top N-channel synchronous switch MOSFET. The TG driver draws power from the BOOST pin and returns to the SW pin, providing true floating drive to the top MOSFET.", 28 BOOST "Top Gate Driver Supply. The BOOST pin supplies power to the floating TG driver. BOOST should be bypassed to SW with a low ESR (X5R or better) 0.1uF capacitor. An additional fast recovery Schottky diode from DRVCC to the (See Datasheet)"
part B pins: 2 NC, 3 NC, 22 NC, 23 NC, 24 NC

## LTC3810EUH-5#PBF
designator U?
Current Mode Synchronous Switching Regulator Controller, 32-pin QFN (UH-32), -40 to 125 degC, Pb-Free; Manufacturer: Linear Technology; PartNumber: LTC3810EUH-5#PBF; Frequency Sync Range: 100kHz - 1MHz; Number of Outputs: 1; DatasheetVersion: Rev. D; PackageVersion: Rev. D, 06/2010; PackageReference: UH-32; PackageDescription: 32-Pin Plastic QFN, Body 5 x 5 mm, Pitch 0.5 mm; Supplier 1: Digi-Key; Supplier Part Number 1: LTC3810EUH-5#PBF-ND; Supplier 2: Newark; Supplier Part Number 2: 56M8494; RoHS: TRUE; Mounting Technology: Surface Mount; Code_JEDEC: MO-220; ComponentLink1Description: Manufacturer URL; ComponentLink1URL: http://www.linear.com/; ComponentLink2Description: Datasheet; ComponentLink2URL: http://cds.linear.com/docs/en/datasheet/38105fd.pdf; ComponentLink3Description: Package Specification; ComponentLink3URL: http://cds.linear.com/docs/en/packaging/QFN_32_05-08-1693.pdf
footprint LT-UH-32_N (QFN, 32-Leads, Body 5.1x5.1mm, Pitch 0.5mm, Thermal Pad 3.45X3.45mm, IPC Medium Density)
footprint LT-UH-32_L (QFN, 32-Leads, Body 5.1x5.1mm, Pitch 0.5mm, Thermal Pad 3.45X3.45mm, IPC High Density)
footprint LT-UH-32_M (QFN, 32-Leads, Body 5.1x5.1mm, Pitch 0.5mm, Thermal Pad 3.45X3.45mm, IPC Low Density)
part A pins: 2 VON (in) "On-Time Voltage Input. Voltage trip point for the on-time comparator. Tying this pin to the output voltage or to an external resistive divider from the output makes the on-time proportional to VOUT. The comparator defaults (See Datasheet)", 3 VRNG (in) "Sense Voltage Limit Set. The voltage at this pin sets the nominal sense voltage at maximum output current and can be set from 0.5V to 2V by a resistive divider from INTVCC. The nominal sense voltage defaults to 95mV when (See Datasheet)", 4 PGOOD (oc) "Power Good Output. Open-drain logic output that is pulled to ground when the output voltage is not between +/-10% of the regulation point. The output voltage must be out of regulation for at least 120us before the power good (See Datasheet)", 5 MODE/SYNC (in) "Pulse Skip Mode Enable/Sync Pin. This multifunction pin provides pulse skip mode enable/ disable control and an external clock input to the phase detector. Pulling this pin below 0.8V or to an external logic-level (See Datasheet)", 6 ITH "Error Amplifier Compensation Point and Current Control Threshold. The current comparator threshold increases with this control voltage. The voltage ranges from 0V to 2.6V with 1.2V corresponding to zero sense voltage (zero (See Datasheet)", 7 VFB (in) "Feedback Input. Connect VFB through a resistor divider network to VOUT to set the output voltage.", 8 PLL/LPF (in) "The phase-locked loop’s lowpass filter is tied to this pin. The voltage at this pin defaults to 1.2V when the IC is not synchronized with an external clock at the MODE/SYNC pin.", 9 SS/TRACK (in) "Soft-Start/Tracking Input. For soft-start, a capacitor to ground at this pin sets the ramp rate of the output voltage (approximately 0.6s/uF). For coincident or ratiometric tracking, connect this pin to a resistive divider (See Datasheet)", 12 ~{SHDN} (in) "Shutdown Pin. Pulling this pin below 1.5V will shut down the LTC3810-5, turn off both of the external MOSFET switches and reduce the quiescent supply current to 240uA.", 13 UVIN (in) "UVLO Input. This pin is input to the internal UVLO and is compared to an internal 0.8V reference. An external resistor divider is connected to this pin and the input supply to program the undervoltage lockout voltage. When (See Datasheet)", 14 NDRV (out) "Drive Output for External Pass Device of the Linear Regulator for INTVCC. Connect to the gate of an external NMOS pass device and a pull-up resistor to the input voltage VIN.", 15 EXTVCC (power) "External Driver Supply Voltage. When this voltage exceeds 4.7V, an internal switch connects this pin to INTVCC through an LDO and turns off the exter nal MOSFET connected to NDRV, so that controller and gate drive are drawn (See Datasheet)", 16 INTVCC (power) "Main Supply Pin. All internal circuits except the output drivers are powered from this pin. INTVCC should be bypassed to ground (Pin 10) with at least a 0.1uF capacitor in close proximity to the LTC3810-5.", 17 DRVCC (power) "Driver Supply Pin. DRVCC supplies power to the BG output driver. This pin is normally connected to INTVCC. DRVCC should be bypassed to BGRTN (Pin 20) with a low ESR (X5R or better) 1uF-10uF capacitor in close proximity to (See Datasheet)", 18 BG (out) "Bottom Gate Drive. The BG pin drives the gate of the bottom N-channel synchronous switch MOSFET. This pin swings from BGRTN to DRVCC", 19 BGRTN "Bottom Gate Return. This pin connects to the source of the pulldown MOSFET in the BG driver and is normally connected to ground. Connecting a negative supply to this pin allows the synchronous MOSFET’s gate to be pulle(See Datasheet)", 20 SENSE- (in) "Current Sense Comparator Input. The (+) input to the current comparator is normally connected to SW unless using a sense resistor. The (-) input is used to accurately kelvin sense the bottom side of the sense resistor or (See Datasheet)", 24 SENSE+ (in) "Current Sense Comparator Input. The (+) input to the current comparator is normally connected to SW unless using a sense resistor. The (-) input is used to accurately kelvin sense the bottom side of the sense resistor or (See Datasheet)", 25 SW "Switch Node Connection to Inductor and Bootstrap Capacitor. The voltage swing at this pin is -0.7V (a Schottky diode (external) voltage drop) to VIN.", 26 TG (out) "Top Gate Drive. The TG pin drives the gate of the top N-channel synchronous switch MOSFET. The TG driver draws power from the BOOST pin and returns to the SW pin, providing true floating drive to the top MOSFET.", 27 BOOST "Top Gate Driver Supply. The BOOST pin supplies power to the floating TG driver. BOOST should be bypassed to SW with a low ESR (X5R or better) 0.1uF capacitor. An additional fast recovery Schottky diode from DRVCC to the (See Datasheet)", 31 ION (in) "On-Time Current Input. Tie a resistor from VIN to this pin to set the one-shot timer current and thereby set the switching frequency.", 33 EP (power) "Signal Ground. All smallsignal components should connect to this ground and eventually connect to PGND at one point."
part B pins: 1 NC, 10 NC, 11 NC, 21 NC, 22 NC, 23 NC, 28 NC, 29 NC, 30 NC, 32 NC